# EAGLE library part SGTL5000XNAA3 (library IC)
IC AUDIO CODEC STEREO 32-QFN Manufacturer's datasheet <http://cache.freescale.com/files/analog/doc/data_sheet/SGTL5000.pdf>
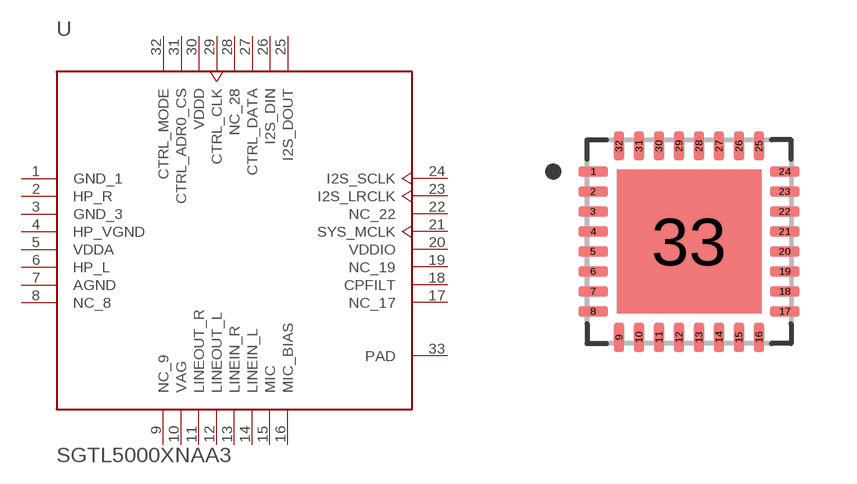
[diagram p4: symbol with the pads of QFN-32; footprint QFN-32]

Designator prefix U

## SGTL5000XNAA3 (CREATED_BY: PCBLayout.com; DIGIKEY_PART_NUMBER: SGTL5000XNAA3-ND; MANUFACTURER: NXP USA Inc.; MPN: SGTL5000XNAA3; PACKAGE: 32-QFN-EP)  [QFN-32]
1  GND_1  pwr
2  HP_R  out
3  GND_3  pwr
4  HP_VGND  pwr
5  VDDA  pwr
6  HP_L  out
7  AGND  pwr
8  NC_8  pas
9  NC_9  pas
10  VAG
11  LINEOUT_R  out
12  LINEOUT_L  out
13  LINEIN_R  in
14  LINEIN_L  in
15  MIC  in
16  MIC_BIAS
17  NC_17  pas
18  CPFILT
19  NC_19  pas
20  VDDIO  pwr
21  SYS_MCLK  in
22  NC_22  pas
23  I2S_LRCLK  in
24  I2S_SCLK  in
25  I2S_DOUT  out
26  I2S_DIN  in
27  CTRL_DATA  in
28  NC_28  pas
29  CTRL_CLK
30  VDDD  pwr
31  CTRL_ADR0_CS  in
32  CTRL_MODE
33  PAD  pwr

## Footprint QFN-32 (pad centres in mm)
Quad Flat No-Lead (QFN with Tab), 0.50 mm pitch; square, 8 pin X 8 pin, 5.00 mm L X 5.00 mm W X 0.90 mm H body PCB Libraries Packages
smd 0.74 x 0.26: 1 -2.395,1.75; 2 -2.395,1.25; 3 -2.395,0.75; 4 -2.395,0.25; 5 -2.395,-0.25; 6 -2.395,-0.75; 7 -2.395,-1.25; 8 -2.395,-1.75; 17 2.395,-1.75; 18 2.395,-1.25; 19 2.395,-0.75; 20 2.395,-0.25; 21 2.395,0.25; 22 2.395,0.75; 23 2.395,1.25; 24 2.395,1.75
smd 0.26 x 0.74: 9 -1.75,-2.395; 10 -1.25,-2.395; 11 -0.75,-2.395; 12 -0.25,-2.395; 13 0.25,-2.395; 14 0.75,-2.395; 15 1.25,-2.395; 16 1.75,-2.395; 25 1.75,2.395; 26 1.25,2.395; 27 0.75,2.395; 28 0.25,2.395; 29 -0.25,2.395; 30 -0.75,2.395; 31 -1.25,2.395; 32 -1.75,2.395
smd 3.6 x 3.6: 33 0,0